# Altium schematic symbol library STPS80150CW.Schlib: 1 symbol
Pins are listed as number, name and electrical type; pins without a type are passive.

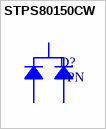
[diagram p0: symbol STPS80150CW]

## STPS80150CW
designator D?
Dual Schottky Diode
pins: 1 A1, 2 K, 3 A2